# Altium footprint library projectlibrary.PcbLib: 18 footprints (part 2 of 2)
Each footprint in its own frame and in the unit in brackets; x right, y up, seen from the top. Pads: shape width x height; smd on the part's side, far side on the other; paste and mask are expansions set on the pad; w line width, h text height; cw(c..) or ccw(c..) is an arc to the next point about the centre after c.
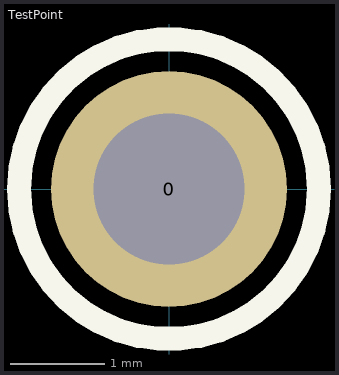
[diagram p1: the footprints below, top view; thin cyan lines are the x and y axes]

## Teensy3DModel [mil]
3D body "Teensy 3.5 - 3.6.step": height 615.65, standoff 98.43, extent -51.58,-105.1 648.42,2350

## TestPoint [mm] "Test Point with Loop - 1.6mm hole"
height 8.13
pads (1):
  round 2.5 hole 1.6: 0(0,0)
Top Overlay:
  circle w0.254: c0,0 r1.59
3D body "User Library-TEST POINT RED Keystone 5010.STEP": height 8.13, standoff -3.1, extent -1.601,-1.592 1.574,1.583